# Altium schematic symbol library FTSH-105-01-L-DV-K-TR.SchLib: 1 symbol
Pins are listed as number, name and electrical type; pins without a type are passive.

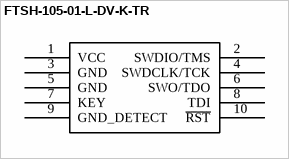
[diagram p0: symbol FTSH-105-01-L-DV-K-TR]

## FTSH-105-01-L-DV-K-TR
designator ?
10P 1.27mm 3.4A 2 Surface Mount,Vertical -55℃~+125℃ SMD,P=1.27mm Headers, Male Pins ROHS
pins: 1 VCC, 2 SWDIO/TMS, 3 GND, 4 SWDCLK/TCK, 5 GND, 6 SWO/TDO, 7 KEY, 8 TDI, 9 GND_DETECT, 10 ~{RST}